# EAGLE library part CD74HC4067SM96 (library (common)-parts-that-we-use)
16-Channel Analog Multiplexer/Demultiplexer
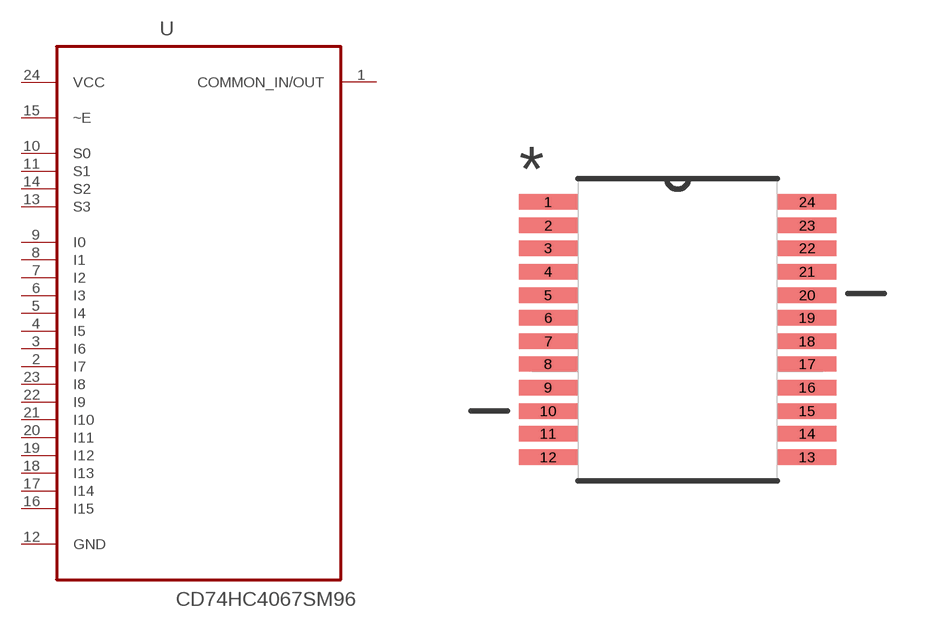
[diagram p10: symbol with the pads of SOP65P780X200-24N; footprint SOP65P780X200-24N]

Designator prefix U

## CD74HC4067SM96 (MPN: CD74HC4067SM96; OC_FARNELL: 1601157; OC_NEWARK: 13N4201; PACKAGE: SOP-24; SUPPLIER: TEXAS INSTRUMENTS)  [SOP65P780X200-24N]
1  COMMON_IN/OUT
2  I7  in
3  I6  in
4  I5  in
5  I4  in
6  I3  in
7  I2  in
8  I1  in
9  I0  in
10  S0  in
11  S1  in
12  GND  pas
13  S3  in
14  S2  in
15  ~E  in
16  I15  in
17  I14  in
18  I13  in
19  I12  in
20  I11  in
21  I10  in
22  I9  in
23  I8  in
24  VCC  pwr

## Footprint SOP65P780X200-24N (pad centres in mm)
smd 1.651 x 0.432: 1 -3.632,3.581; 2 -3.632,2.921; 3 -3.632,2.286; 4 -3.632,1.626; 5 -3.632,0.965; 6 -3.632,0.33; 7 -3.632,-0.33; 8 -3.632,-0.965; 9 -3.632,-1.626; 10 -3.632,-2.286; 11 -3.632,-2.921; 12 -3.632,-3.581; 13 3.632,-3.581; 14 3.632,-2.921; 15 3.632,-2.286; 16 3.632,-1.626; 17 3.632,-0.965; 18 3.632,-0.33; 19 3.632,0.33; 20 3.632,0.965; 21 3.632,1.626; 22 3.632,2.286; 23 3.632,2.921; 24 3.632,3.581